# Altium footprint library Connectors.PcbLib: 147 footprints (part 8 of 10)
Each footprint in its own frame and in the unit in brackets; x right, y up, seen from the top. Pads: shape width x height; smd on the part's side, far side on the other; paste and mask are expansions set on the pad; w line width, h text height; cw(c..) or ccw(c..) is an arc to the next point about the centre after c.
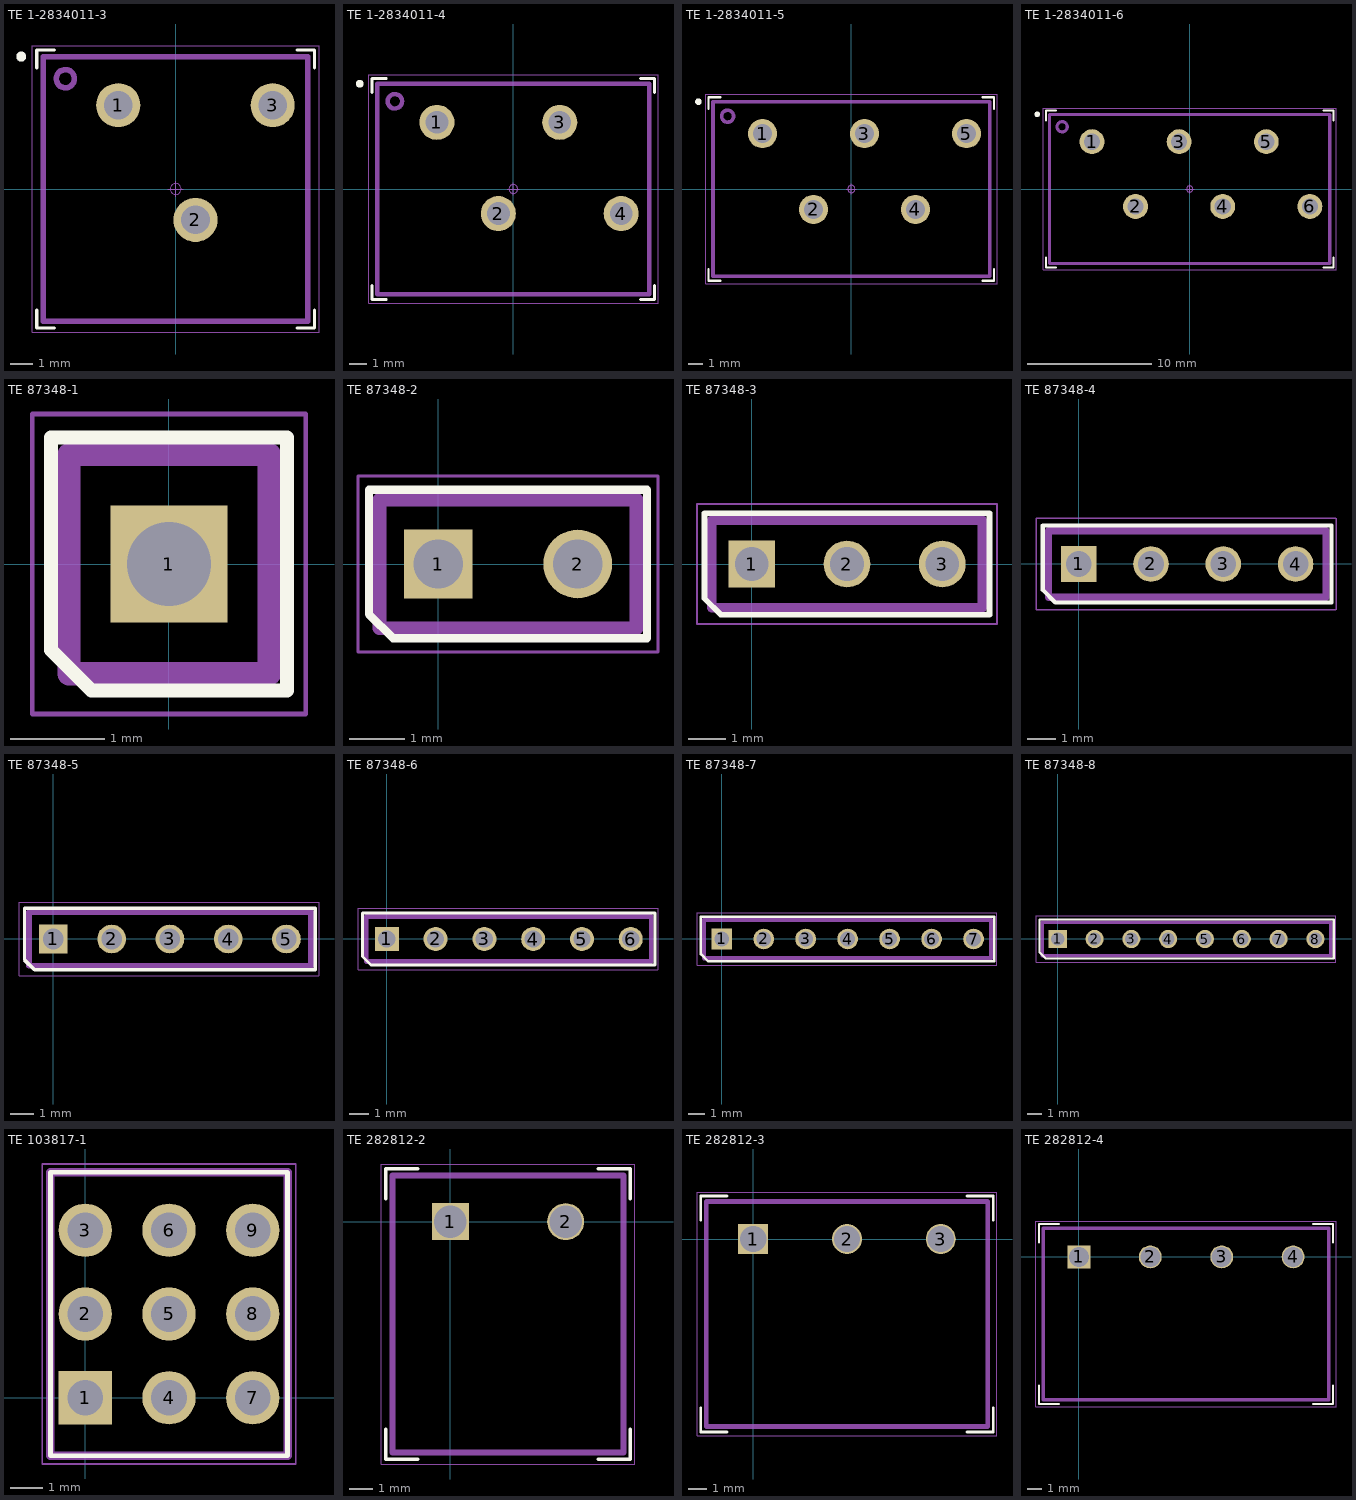
[diagram p7: the footprints below, top view; thin cyan lines are the x and y axes]

## TE 1-2834011-3 [mm] "PCB Terminal Blocks, Receptacle, Wire-to-Board, 3 Position, 1 Row, 45° Wire Entry Angle, 20 – 14 AWG Wire Size, Operating Voltage 300 VAC"
height 12.8
pads (3):
  round 2 hole 1.3 paste-2539.97: 1(-2.6,3.8) 2(0.9,-1.4) 3(4.4,3.8)
Top Overlay:
  circle w0.25: c-7,6 r0.1
  lines w0.15: -6.3,-5.5 -6.3,-6.3 -5.5,-6.3 ; -6.3,5.5 -6.3,6.3 -5.5,6.3 ; 5.5,-6.3 6.3,-6.3 6.3,-5.5 ; 5.5,6.3 6.3,6.3 6.3,5.5
  text ".Net2" at 1.374,-9.714 h1.5
  text ".Net1" at -2.076,-9.537 h1.5
  text ".Net3" at 4.824,-9.723 h1.5
Top Assembly:
  circle w0.25: c-5,5 r0.412
  lines w0.25: -6,-6 6,-6 6,6 -6,6 -6,-6
  text ".Designator" at -3.378,-0.339 h1.5
Top Courtyard:
  circle w0.05: c0,0 r0.25
  lines w0.05: -0.35,0 0.35,0 ; 0,-0.35 0,0.35 ; -6.5,-6.5 6.5,-6.5 6.5,6.5 -6.5,6.5 -6.5,-6.5
3D body "c-1-2834011-3-2-3d-Colors.STEP": height 12.94, standoff -3.49, extent -6,-6 6,6

## TE 1-2834011-4 [mm] "PCB Terminal Blocks, Receptacle, Wire-to-Board, 4 Position, 1 Row, 45° Wire Entry Angle, 20 – 14 AWG Wire Size, Operating Voltage 300 VAC"
height 12.8
pads (4):
  round 2 hole 1.3 paste-2539.97: 1(-4.35,3.8) 2(-0.85,-1.4) 3(2.65,3.8) 4(6.15,-1.4)
Top Overlay:
  circle w0.25: c-8.75,6 r0.1
  lines w0.15: -8.05,-5.5 -8.05,-6.3 -7.25,-6.3 ; -8.05,5.5 -8.05,6.3 -7.25,6.3 ; 7.25,-6.3 8.05,-6.3 8.05,-5.5 ; 7.25,6.3 8.05,6.3 8.05,5.5
  text ".Net2" at -0.376,-9.714 h1.5
  text ".Net1" at -3.826,-9.537 h1.5
  text ".Net3" at 3.074,-9.723 h1.5
  text ".Net4" at 6.522,-9.719 h1.5
Top Assembly:
  circle w0.25: c-6.75,5 r0.412
  lines w0.25: -7.75,-6 7.75,-6 7.75,6 -7.75,6 -7.75,-6
  text ".Designator" at -3.378,-0.339 h1.5
Top Courtyard:
  circle w0.05: c0,0 r0.25
  lines w0.05: -0.35,0 0.35,0 ; 0,-0.35 0,0.35 ; -8.25,-6.5 8.25,-6.5 8.25,6.5 -8.25,6.5 -8.25,-6.5
3D body "c-1-2834011-4-2-3d-Colors.STEP": height 12.94, standoff -3.49, extent -7.75,-6 7.75,6

## TE 1-2834011-5 [mm] "PCB Terminal Blocks, Receptacle, Wire-to-Board, 5 Position, 1 Row, 45° Wire Entry Angle, 20 – 14 AWG Wire Size, Operating Voltage 300 VAC"
height 12.8
pads (5):
  round 2 hole 1.3 paste-2539.97: 1(-6.1,3.8) 2(-2.6,-1.4) 3(0.9,3.8) 4(4.4,-1.4) 5(7.9,3.8)
Top Overlay:
  circle w0.25: c-10.5,6 r0.1
  lines w0.15: -9.8,-5.5 -9.8,-6.3 -9,-6.3 ; -9.8,5.5 -9.8,6.3 -9,6.3 ; 9,-6.3 9.8,-6.3 9.8,-5.5 ; 9,6.3 9.8,6.3 9.8,5.5
  text ".Net5" at 8.222,-9.73 h1.5
  text ".Net2" at -2.126,-9.714 h1.5
  text ".Net1" at -5.576,-9.537 h1.5
  text ".Net3" at 1.324,-9.723 h1.5
  text ".Net4" at 4.772,-9.719 h1.5
Top Assembly:
  circle w0.25: c-8.5,5 r0.412
  lines w0.25: -9.5,-6 9.5,-6 9.5,6 -9.5,6 -9.5,-6
  text ".Designator" at -3.378,-0.339 h1.5
Top Courtyard:
  circle w0.05: c0,0 r0.25
  lines w0.05: -0.35,0 0.35,0 ; 0,-0.35 0,0.35 ; -10,-6.5 10,-6.5 10,6.5 -10,6.5 -10,-6.5
3D body "c-1-2834011-5-2-3d-Colors.STEP": height 12.94, standoff -3.49, extent -9.5,-6 9.5,6

## TE 1-2834011-6 [mm] "PCB Terminal Blocks, Receptacle, Wire-to-Board, 6 Position, 1 Row, 45° Wire Entry Angle, 20 – 14 AWG Wire Size, Operating Voltage 300 VAC"
height 12.8
pads (6):
  round 2 hole 1.3 paste-2539.97: 1(-7.85,3.8) 2(-4.35,-1.4) 3(-0.85,3.8) 4(2.65,-1.4) 5(6.15,3.8) 6(9.65,-1.4)
Top Overlay:
  circle w0.25: c-12.25,6 r0.1
  lines w0.15: -11.55,-5.5 -11.55,-6.3 -10.75,-6.3 ; -11.55,5.5 -11.55,6.3 -10.75,6.3 ; 10.75,-6.3 11.55,-6.3 11.55,-5.5 ; 10.75,6.3 11.55,6.3 11.55,5.5
  text ".Net5" at 6.472,-9.73 h1.5
  text ".Net2" at -3.876,-9.714 h1.5
  text ".Net1" at -7.326,-9.537 h1.5
  text ".Net3" at -0.426,-9.723 h1.5
  text ".Net4" at 3.022,-9.719 h1.5
  text ".Net6" at 9.924,-9.723 h1.5
Top Assembly:
  circle w0.25: c-10.25,5 r0.412
  lines w0.25: -11.25,-6 11.25,-6 11.25,6 -11.25,6 -11.25,-6
  text ".Designator" at -3.378,-0.339 h1.5
Top Courtyard:
  circle w0.05: c0,0 r0.25
  lines w0.05: -0.35,0 0.35,0 ; 0,-0.35 0,0.35 ; -11.75,-6.5 -11.75,6.5 11.75,6.5 11.75,-6.5 -11.75,-6.5
3D body "c-1-2834011-6-2-3d-Colors.STEP": height 12.94, standoff -3.49, extent -11.25,-6 11.25,6

## TE 87348-1 [mm] "PCB Mount Header, Vertical, Board-to-Board, 3 Position, 2.54 mm [.1 in] Centerline, Unshrouded, Tin-Lead, Through Hole - Solder, AMPMODU Headers"
height 11.25
pads (1):
  rect 1.25x1.25 hole 0.9 paste-2539.97: 1(0,0)
Top Overlay:
  lines w0.15: -1.26,-0.915 -1.26,1.35 1.26,1.35 1.26,-1.35 -0.825,-1.35 -1.26,-0.915
Top Assembly:
  lines w0.25: -1.067,-1.168 1.067,-1.168 1.067,1.168 -1.067,1.168 -1.067,-1.168
  text ".Designator" at -0.838,-0.339 h1.5
Top Courtyard:
  circle w0.05: c0,0 r0.25
  lines w0.05: -0.35,0 0.35,0 ; 0,-0.35 0,0.35 ; -1.46,-1.6 1.46,-1.6 1.46,1.6 -1.46,1.6 -1.46,-1.6
3D body "c-87348-1-p-3d_colors.STEP": height 10.38, standoff -3.16, extent -1.067,-1.168 1.067,1.169

## TE 87348-2 [mm] "PCB Mount Header, Vertical, Board-to-Board, 3 Position, 2.54 mm [.1 in] Centerline, Unshrouded, Tin-Lead, Through Hole - Solder, AMPMODU Headers"
height 11.25
pads (2):
  rect 1.25x1.25 hole 0.9 paste-2539.97: 1(0,0)
  round 1.25 hole 0.9 paste-2539.97: 2(2.54,0)
Top Overlay:
  lines w0.15: -1.26,-0.915 -0.825,-1.35 3.8,-1.35 3.8,1.35 -1.26,1.35 -1.26,-0.915
Top Assembly:
  lines w0.25: -1.067,-1.168 -1.067,1.168 3.607,1.168 3.607,-1.168 -1.067,-1.168
  text ".Designator" at -0.838,-0.339 h1.5
Top Courtyard:
  circle w0.05: c0,0 r0.25
  lines w0.05: -0.35,0 0.35,0 ; 0,-0.35 0,0.35 ; -1.46,-1.6 -1.46,1.6 4,1.6 4,-1.6 -1.46,-1.6
3D body "c-87348-2-p-3d_colors.STEP": height 10.38, standoff -3.16, extent -1.067,-1.168 3.607,1.169

## TE 87348-3 [mm] "PCB Mount Header, Vertical, Board-to-Board, 3 Position, 2.54 mm [.1 in] Centerline, Unshrouded, Tin-Lead, Through Hole - Solder, AMPMODU Headers"
height 11.25
pads (3):
  rect 1.25x1.25 hole 0.9 paste-2539.97: 1(0,0)
  round 1.25 hole 0.9 paste-2539.97: 2(2.54,0) 3(5.08,0)
Top Overlay:
  lines w0.15: -1.26,-0.915 -1.26,1.35 6.34,1.35 6.34,-1.35 -0.825,-1.35 -1.26,-0.915
Top Assembly:
  lines w0.25: -1.067,-1.168 6.147,-1.168 6.147,1.168 -1.067,1.168 -1.067,-1.168
  text ".Designator" at -0.838,-0.339 h1.5
Top Courtyard:
  circle w0.05: c0,0 r0.25
  lines w0.05: -0.35,0 0.35,0 ; 0,-0.35 0,0.35 ; -1.46,-1.6 6.54,-1.6 6.54,1.6 -1.46,1.6 -1.46,-1.6
3D body "c-87348-3-p-3d_colors.STEP": height 10.38, standoff -3.16, extent -1.067,-1.168 6.147,1.169

## TE 87348-4 [mm] "PCB Mount Header, Vertical, Board-to-Board, 3 Position, 2.54 mm [.1 in] Centerline, Unshrouded, Tin-Lead, Through Hole - Solder, AMPMODU Headers"
height 11.25
pads (4):
  rect 1.25x1.25 hole 0.9 paste-2539.97: 1(0,0)
  round 1.25 hole 0.9 paste-2539.97: 2(2.54,0) 3(5.08,0) 4(7.62,0)
Top Overlay:
  lines w0.15: -1.26,-0.915 -1.26,1.35 8.88,1.35 8.88,-1.35 -0.825,-1.35 -1.26,-0.915
Top Assembly:
  lines w0.25: -1.067,-1.168 8.687,-1.168 8.687,1.168 -1.067,1.168 -1.067,-1.168
  text ".Designator" at -0.838,-0.339 h1.5
Top Courtyard:
  circle w0.05: c0,0 r0.25
  lines w0.05: -0.35,0 0.35,0 ; 0,-0.35 0,0.35 ; -1.5,-1.6 9.04,-1.6 9.04,1.6 -1.5,1.6 -1.5,-1.6
3D body "c-87348-4-p-3d_colors.STEP": height 10.38, standoff -3.16, extent -1.067,-1.168 8.687,1.168

## TE 87348-5 [mm] "PCB Mount Header, Vertical, Board-to-Board, 3 Position, 2.54 mm [.1 in] Centerline, Unshrouded, Tin-Lead, Through Hole - Solder, AMPMODU Headers"
height 11.25
pads (5):
  rect 1.25x1.25 hole 0.9 paste-2539.97: 1(0,0)
  round 1.25 hole 0.9 paste-2539.97: 2(2.54,0) 3(5.08,0) 4(7.62,0) 5(10.16,0)
Top Overlay:
  lines w0.15: -1.26,-0.915 -0.825,-1.35 11.42,-1.35 11.42,1.35 -1.26,1.35 -1.26,-0.915
Top Assembly:
  lines w0.25: -1.067,-1.168 11.227,-1.168 11.227,1.168 -1.067,1.168 -1.067,-1.168
  text ".Designator" at -0.838,-0.339 h1.5
Top Courtyard:
  circle w0.05: c0,0 r0.25
  lines w0.05: -0.35,0 0.35,0 ; 0,-0.35 0,0.35 ; -1.5,-1.6 11.58,-1.6 11.58,1.6 -1.5,1.6 -1.5,-1.6
3D body "c-87348-5-p-3d_colors.STEP": height 10.38, standoff -3.16, extent -1.067,-1.168 11.227,1.168

## TE 87348-6 [mm] "PCB Mount Header, Vertical, Board-to-Board, 3 Position, 2.54 mm [.1 in] Centerline, Unshrouded, Tin-Lead, Through Hole - Solder, AMPMODU Headers"
height 11.25
pads (6):
  rect 1.25x1.25 hole 0.9 paste-2539.97: 1(0,0)
  round 1.25 hole 0.9 paste-2539.97: 2(2.54,0) 3(5.08,0) 4(7.62,0) 5(10.16,0) 6(12.7,0)
Top Overlay:
  lines w0.15: -1.26,-0.915 -1.26,1.35 13.96,1.35 13.96,-1.35 -0.825,-1.35 -1.26,-0.915
Top Assembly:
  lines w0.25: -1.067,-1.168 13.767,-1.168 13.767,1.168 -1.067,1.168 -1.067,-1.168
  text ".Designator" at -0.838,-0.339 h1.5
Top Courtyard:
  circle w0.05: c0,0 r0.25
  lines w0.05: -0.35,0 0.35,0 ; 0,-0.35 0,0.35 ; -1.5,-1.6 14.12,-1.6 14.12,1.6 -1.5,1.6 -1.5,-1.6
3D body "c-87348-6-p-3d_colors.STEP": height 10.38, standoff -3.16, extent -1.067,-1.168 13.767,1.168

## TE 87348-7 [mm] "PCB Mount Header, Vertical, Board-to-Board, 3 Position, 2.54 mm [.1 in] Centerline, Unshrouded, Tin-Lead, Through Hole - Solder, AMPMODU Headers"
height 11.25
pads (7):
  rect 1.25x1.25 hole 0.9 paste-2539.97: 1(0,0)
  round 1.25 hole 0.9 paste-2539.97: 2(2.54,0) 3(5.08,0) 4(7.62,0) 5(10.16,0) 6(12.7,0) 7(15.24,0)
Top Overlay:
  lines w0.15: -1.26,-0.915 -0.825,-1.35 16.5,-1.35 16.5,1.35 -1.26,1.35 -1.26,-0.915
Top Assembly:
  lines w0.25: -1.067,-1.168 -1.067,1.168 16.307,1.168 16.307,-1.168 -1.067,-1.168
  text ".Designator" at -0.838,-0.339 h1.5
Top Courtyard:
  circle w0.05: c0,0 r0.25
  lines w0.05: -0.35,0 0.35,0 ; 0,-0.35 0,0.35 ; -1.5,-1.6 -1.5,1.6 16.66,1.6 16.66,-1.6 -1.5,-1.6
3D body "c-87348-7-l-3d_colors.STEP": height 10.38, standoff -3.16, extent -1.067,-1.168 16.307,1.168

## TE 87348-8 [mm] "PCB Mount Header, Vertical, Board-to-Board, 3 Position, 2.54 mm [.1 in] Centerline, Unshrouded, Tin-Lead, Through Hole - Solder, AMPMODU Headers"
height 11.25
pads (8):
  rect 1.25x1.25 hole 0.9 paste-2539.97: 1(0,0)
  round 1.25 hole 0.9 paste-2539.97: 2(2.54,0) 3(5.08,0) 4(7.62,0) 5(10.16,0) 6(12.7,0) 7(15.24,0) 8(17.78,0)
Top Overlay:
  lines w0.15: -1.26,-0.915 -0.825,-1.35 19.04,-1.35 19.04,1.35 -1.26,1.35 -1.26,-0.915
Top Assembly:
  lines w0.25: -1.067,-1.168 -1.067,1.168 18.847,1.168 18.847,-1.168 -1.067,-1.168
  text ".Designator" at -0.838,-0.339 h1.5
Top Courtyard:
  circle w0.05: c0,0 r0.25
  lines w0.05: -0.35,0 0.35,0 ; 0,-0.35 0,0.35 ; -1.5,-1.6 -1.5,1.6 19.2,1.6 19.2,-1.6 -1.5,-1.6
3D body "c-87348-8-p-3d_colors.STEP": height 10.38, standoff -3.16, extent -1.067,-1.168 18.847,1.168

## TE 103817-1 [mm] "Header, Vertical, 2.54 mm pitch; 0.66 mm lead width, 9 pins, 3 rows, 3 pins per row, 7.20 mm L X 8.60 mm W X 9.00 mm H body"
height 9
pads (9):
  rect 1.62x1.62 / inner round 1.62 / far side rect 1.62x1.62 hole 1.08 paste-2539.97: 1(0,0)
  round 1.62 hole 1.08 paste-2539.97: 2(0,2.54) 3(0,5.08) 4(2.54,0) 5(2.54,2.54) 6(2.54,5.08) 7(5.08,0) 8(5.08,2.54) 9(5.08,5.08)
Top Overlay:
  lines w0.15: -1.06,-1.76 6.14,-1.76 6.14,6.84 -1.06,6.84 -1.06,-1.76
Top Assembly:
  lines w0.25: -1.06,-1.76 6.14,-1.76 6.14,6.84 -1.06,6.84 -1.06,-1.76
  text ".Designator" at -0.104,2.329 h1.2
Top Courtyard:
  circle w0.05: c0,0 r0.25
  lines w0.05: -0.35,0 0.35,0 ; 0,-0.35 0,0.35 ; -1.31,-2.01 6.39,-2.01 6.39,7.09 -1.31,7.09 -1.31,-2.01
3D body "TE 5-103817-1.STEP": height 9, standoff -2, extent -1.06,-1.76 6.14,6.84

## TE 282812-2 [mm] "PCB Terminal Blocks, Header, Wire-to-Board, 2 Position, .197 in [5 mm] Centerline, 1 Row, Operating Voltage 300 VAC, Printed Circuit Board"
height 12
pads (2):
  rect 1.6x1.6 hole 1.4: 1(0,0)
  round 1.6 hole 1.4: 2(5,0)
Top Overlay:
  lines w0.15: -2.8,-9 -2.8,-10.3 -1.4,-10.3 ; -2.8,1 -2.8,2.3 -1.4,2.3 ; 6.4,-10.3 7.8,-10.3 7.8,-9 ; 6.4,2.3 7.8,2.3 7.8,1
Top Assembly:
  lines w0.25: -2.5,-10 7.5,-10 7.5,2 -2.5,2 -2.5,-10
  text ".Designator" at -0.878,-0.339 h1.5
Top Courtyard:
  circle w0.05: c0,0 r0.25
  lines w0.05: -0.35,0 0.35,0 ; 0,-0.35 0,0.35 ; -3,-10.5 -3,2.5 8,2.5 8,-10.5 -3,-10.5
3D body "c-0282812-02-d-3d_colors.STEP": height 8.36, standoff -3.49, extent -2.5,-10 7.5,2

## TE 282812-3 [mm] "PCB Terminal Blocks, Header, Wire-to-Board, 3 Position, .197 in [5 mm] Centerline, 1 Row, Operating Voltage 300 VAC, Printed Circuit Board"
height 12
pads (3):
  rect 1.6x1.6 hole 1.4: 1(0,0)
  round 1.6 hole 1.4: 2(5,0) 3(10,0)
Top Overlay:
  lines w0.15: -2.8,-9 -2.8,-10.3 -1.4,-10.3 ; -2.8,1 -2.8,2.3 -1.4,2.3 ; 11.4,-10.3 12.8,-10.3 12.8,-9 ; 11.4,2.3 12.8,2.3 12.8,1
Top Assembly:
  lines w0.25: -2.5,-10 -2.5,2 12.5,2 12.5,-10 -2.5,-10
  text ".Designator" at -0.878,-0.339 h1.5
Top Courtyard:
  circle w0.05: c0,0 r0.25
  lines w0.05: -0.35,0 0.35,0 ; 0,-0.35 0,0.35 ; -3,-10.5 -3,2.5 13,2.5 13,-10.5 -3,-10.5
3D body "c-0282812-03-d-3d_colors.STEP": height 8.36, standoff -3.49, extent -2.5,-10 12.5,2

## TE 282812-4 [mm] "PCB Terminal Blocks, Header, Wire-to-Board, 4 Position, .197 in [5 mm] Centerline, 1 Row, Operating Voltage 300 VAC, Printed Circuit Board"
height 12
pads (4):
  rect 1.6x1.6 hole 1.4: 1(0,0)
  round 1.6 hole 1.4: 2(5,0) 3(10,0) 4(15,0)
Top Overlay:
  lines w0.15: -2.8,-9 -2.8,-10.3 -1.4,-10.3 ; -2.8,1 -2.8,2.3 -1.4,2.3 ; 16.4,-10.3 17.8,-10.3 17.8,-9 ; 16.4,2.3 17.8,2.3 17.8,1
Top Assembly:
  lines w0.25: -2.5,-10 -2.5,2 17.5,2 17.5,-10 -2.5,-10
  text ".Designator" at -0.878,-0.339 h1.5
Top Courtyard:
  circle w0.05: c0,0 r0.25
  lines w0.05: -0.35,0 0.35,0 ; 0,-0.35 0,0.35 ; -3,-10.5 -3,2.5 18,2.5 18,-10.5 -3,-10.5
3D body "c-0282812-04-d-3d_colors.STEP": height 8.36, standoff -3.49, extent -2.5,-10 17.5,2